# Altium footprint library MOLEX_MICROSD.PcbLib: 1 footprints
Each footprint in its own frame and in the unit in brackets; x right, y up, seen from the top. Pads: shape width x height; smd on the part's side, far side on the other; paste and mask are expansions set on the pad; w line width, h text height; cw(c..) or ccw(c..) is an arc to the next point about the centre after c.
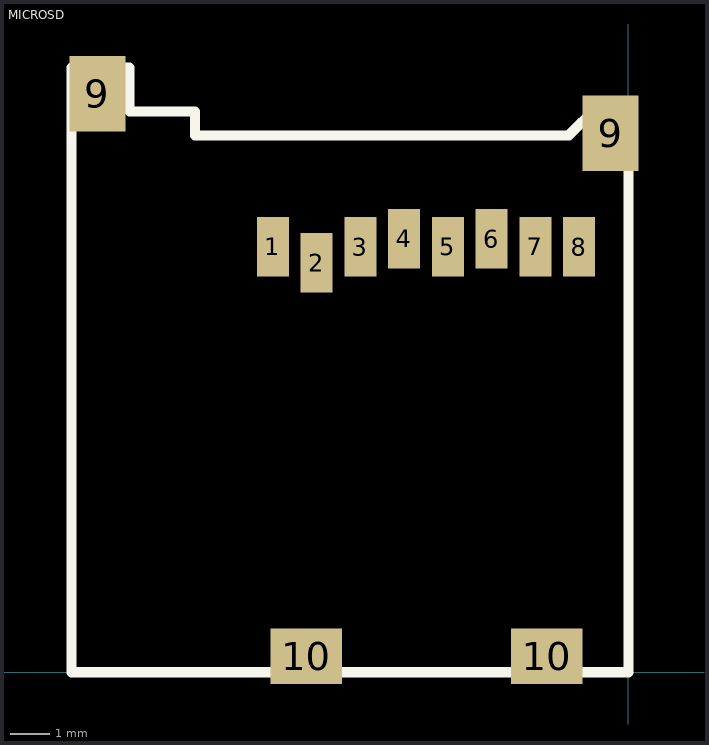
[diagram p0: the footprint, top view; thin cyan lines are the x and y axes]

## MICROSD [mm]
height 1.8
pads (12):
  rect 0.8x1.5 smd: 1(-8.94,10.7) 2(-7.84,10.3) 3(-6.74,10.7) 4(-5.64,10.9) 5(-4.54,10.7) 6(-3.44,10.9) 7(-2.34,10.7) 8(-1.24,10.7)
  rect 1.4x1.9 smd: 9(-13.35,14.55) 9(-0.45,13.55)
  rect 1.8x1.4 smd: 10(-8.1,0.4) 10(-2.05,0.4)
Top Overlay:
  lines w0.254: -14,0 0,0 0,14.2 -0.8,14.2 -1.5,13.5 -10.9,13.5 -10.9,14.1 -12.54,14.1 -12.54,15.2 -14,15.2 -14,0
3D body: height 1.8, standoff -0.08, extent -14,0.1 0.1,15.3